# Altium schematic symbol library HC4046.Schlib: 1 symbol
Pins are listed as number, name and electrical type; pins without a type are passive.

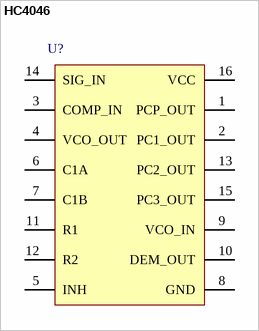
[diagram p0: symbol HC4046]

## HC4046
designator U?  (value not drawn)
PLL, 4046
pins: 1 PCP_OUT, 2 PC1_OUT, 3 COMP_IN, 4 VCO_OUT, 5 INH, 6 C1A, 7 C1B, 8 GND, 9 VCO_IN, 10 DEM_OUT, 11 R1, 12 R2, 13 PC2_OUT, 14 SIG_IN, 15 PC3_OUT, 16 VCC